# Altium schematic symbol library LT3042EMSETRPBF.SchLib: 1 symbol
Pins are listed as number, name and electrical type; pins without a type are passive.

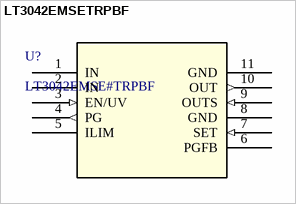
[diagram p0: symbol LT3042EMSETRPBF]

## LT3042EMSETRPBF
designator U?, comment LT3042EMSE#TRPBF
20V, 200mA, Ultralow Noise, Ultrahigh PSRR RF Linear Regulator; Manufacturer_Name: Analog Devices Inc; Type: Power Management; Copyright: Copyright (C) 2025 Ultra Librarian. All rights reserved.; Manufacturer_Part_Number: LT3042EMSE#TRPBF; RefDes: RefDes
footprint 05-08-1664_ADI
pins: 1 IN (power), 2 IN (power), 3 EN/UV (in), 4 PG (out), 5 ILIM, 6 PGFB, 7 SET (in), 8 GND (power), 9 OUTS (in), 10 OUT (out), 11 GND (power)